# Altium footprint library diy-modules.PCBLIB: 111 footprints (part 2 of 7)
Each footprint in its own frame and in the unit in brackets; x right, y up, seen from the top. Pads: shape width x height; smd on the part's side, far side on the other; paste and mask are expansions set on the pad; w line width, h text height; cw(c..) or ccw(c..) is an arc to the next point about the centre after c.
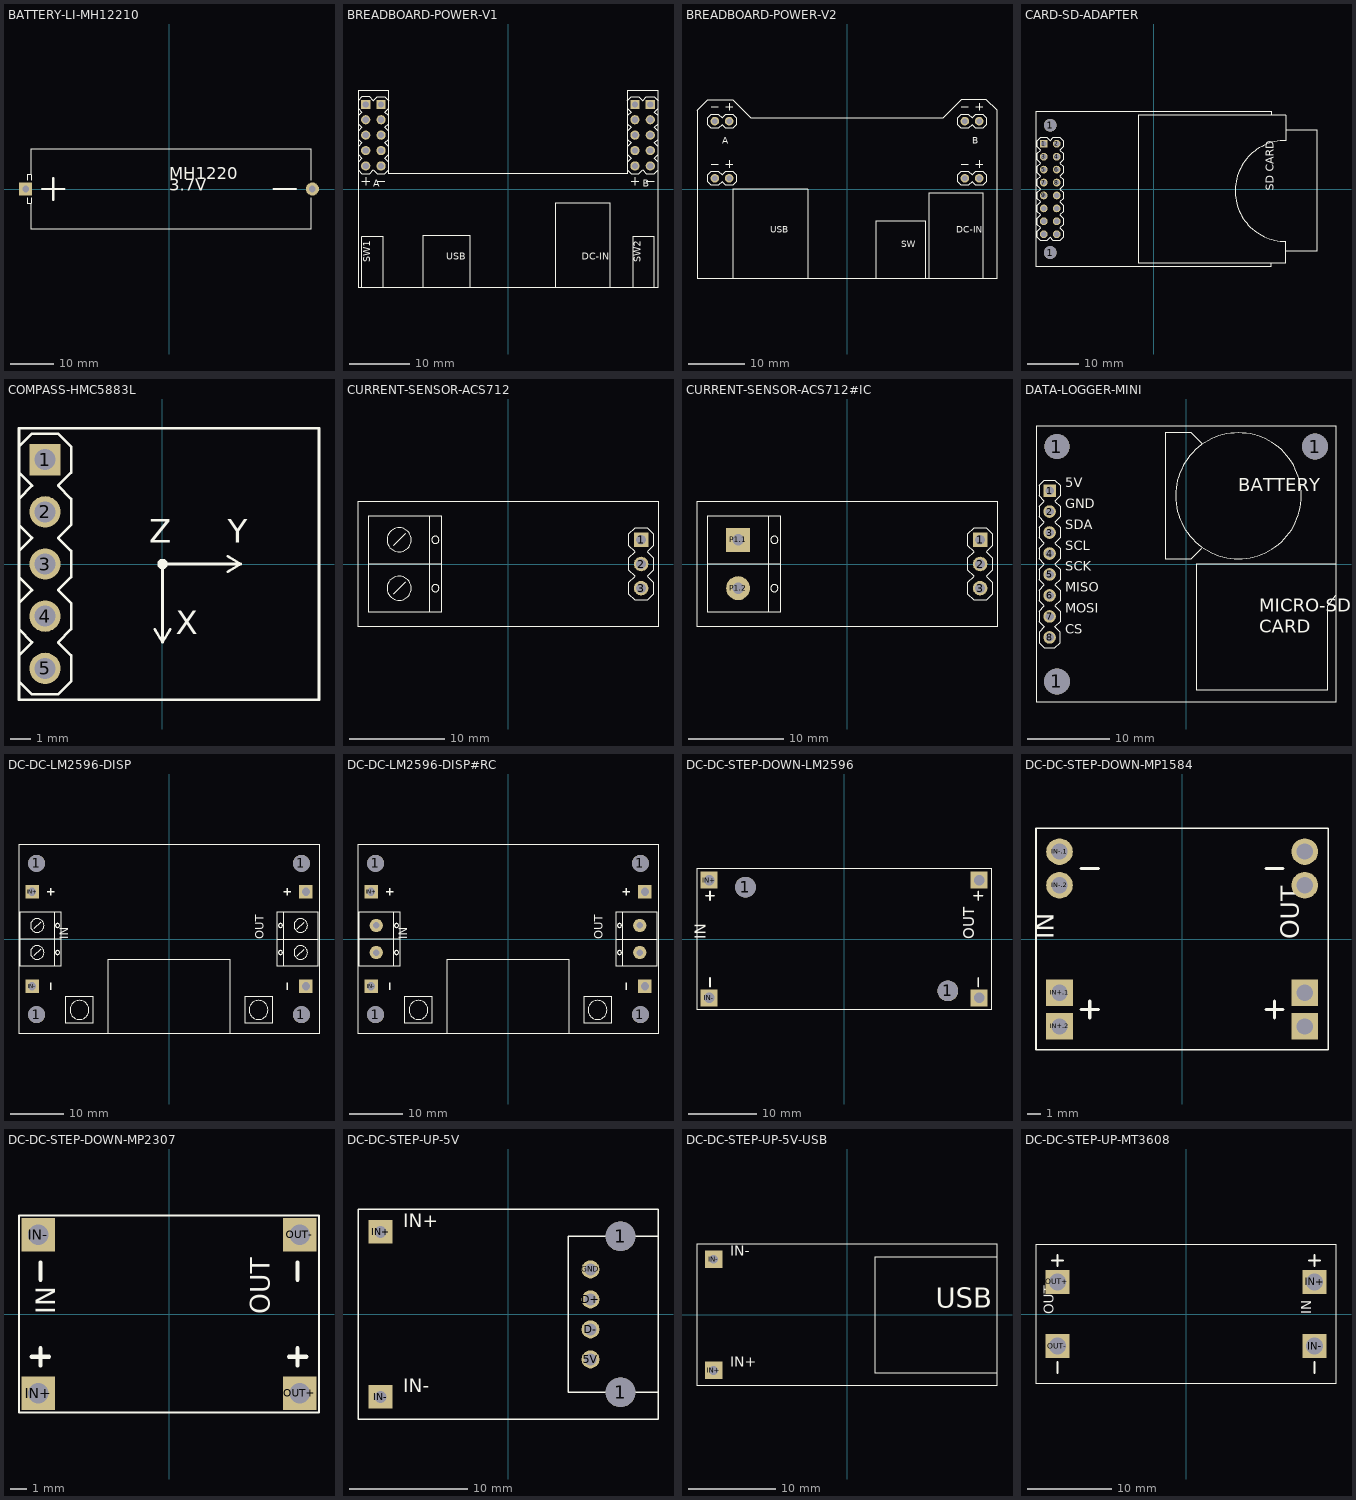
[diagram p1: the footprints below, top view; thin cyan lines are the x and y axes]

## BATTERY-LI-MH12210 [mil]
pads (2):
  rect 119x119 hole 60: BAT+(-1300,0)
  round 119 hole 60: BAT-(1300,0)
Top Overlay:
  lines w5: -1285,-80 -1285,-130 -1250,-130 ; -1285,80 -1285,130 -1250,130 ; -1250,-80 -1250,-130 ; -1250,80 -1250,130 ; 1285,-80 1285,-365 -1250,-365 -1250,-130 ; 1285,80 1285,365 -1250,365 -1250,130
  lines w20: -1150,0 -950,0 ; -1050,-100 -1050,100 ; 950,0 1150,0
  text "MH1220" at 0,50 h186
  text "3.7V" at 0,-50 h186

## BREADBOARD-POWER-V1 [mil]
pads (20):
  rect 60x60 hole 40: A.M.1(-825,550) A.P.1(-925,550) B.M.1(925,550) B.P.1(825,550)
  round 60 hole 40: A.M.2(-825,450) A.M.3(-825,350) A.M.4(-825,250) A.M.5(-825,150) A.P.2(-925,450) A.P.3(-925,350) A.P.4(-925,250) A.P.5(-925,150) B.M.2(925,450) B.M.3(925,350) B.M.4(925,250) B.M.5(925,150) B.P.2(825,450) B.P.3(825,350) B.P.4(825,250) B.P.5(825,150)
Top Overlay:
  lines w5: -975,575 -950,600 -900,600 -875,575 -850,600 -800,600 -775,575 ; -950,50 -900,50 ; -925,25 -925,75 ; -850,50 -800,50 ; 800,50 850,50 ; 825,25 825,75 ; 900,50 950,50 ; -975,125 -975,175 ; -975,125 -975,-640 -950,-640 ; -975,125 -950,100 -900,100 -875,125 -850,100 -800,100 -775,125 ; -975,175 -975,225 ; -975,175 -950,200 -975,225 ; -975,225 -975,275 ; -975,275 -975,325 ; -975,275 -950,300 -975,325 ; -975,325 -975,375 ; -975,375 -975,425 ; -975,375 -950,400 -975,425 ; -975,425 -975,475 ; -975,475 -975,525 ; -975,475 -950,500 -975,525 ; -975,525 -975,640 -775,640 -775,525 ; -950,-640 -810,-640 ; -950,-640 -950,-310 -810,-310 -810,-640 ; -810,-640 -550,-640 ; -775,125 -775,100 775,100 775,125 ; -775,125 -775,175 ; -775,175 -775,225 ; -775,175 -800,200 -775,225 ; -775,225 -775,275 ; -775,275 -775,325 ; -775,275 -800,300 -775,325 ; -775,325 -775,375 ; -775,375 -775,425 ; -775,375 -800,400 -775,425 ; -775,425 -775,475 ; -775,475 -775,525 ; -775,475 -800,500 -775,525 ; -550,-640 -250,-640 ; -550,-640 -550,-300 -250,-300 -250,-640 ; -250,-640 310,-640 ; 310,-640 660,-640 ; 310,-640 310,-90 660,-90 660,-640 ; 660,-640 810,-640 ; 775,125 775,175 ; 775,125 800,100 850,100 875,125 900,100 950,100 975,125 ; 775,175 775,225 ; 775,175 800,200 775,225 ; 775,225 775,275 ; 775,275 775,325 ; 775,275 800,300 775,325 ; 775,325 775,375 ; 775,375 775,425 ; 775,375 800,400 775,425 ; 775,425 775,475 ; 775,475 775,525 ; 775,475 800,500 775,525 ; 775,525 775,575 ; 775,575 775,640 975,640 975,575 ; 775,575 800,600 850,600 875,575 900,600 950,600 975,575 ; 810,-640 950,-640 ; 810,-640 810,-310 950,-310 950,-640 ; 950,-640 975,-640 975,125 ; 975,125 975,175 ; 975,175 975,225 ; 975,175 950,200 975,225 ; 975,225 975,275 ; 975,275 975,325 ; 975,275 950,300 975,325 ; 975,325 975,375 ; 975,375 975,425 ; 975,375 950,400 975,425 ; 975,425 975,475 ; 975,475 975,525 ; 975,475 950,500 975,525 ; 975,525 975,575
  text "SW1" at -880,-475 h77.5
  text "USB" at -400,-475 h77.5
  text "DC-IN" at 480,-475 h77.5
  text "SW2" at 880,-475 h77.5
  text "A" at -875,0 h77.5
  text "B" at 875,0 h77.5

## BREADBOARD-POWER-V2 [mil]
pads (8):
  round 60 hole 40: A.M.1(-925,475) A.M.2(-925,75) A.P.1(-825,475) A.P.2(-825,75) B.M.1(825,475) B.M.2(825,75) B.P.1(925,475) B.P.2(925,75)
Top Overlay:
  lines w5: -950,175 -900,175 ; -950,575 -900,575 ; -850,175 -800,175 ; -850,575 -800,575 ; -825,150 -825,200 ; -825,550 -825,600 ; 800,175 850,175 ; 800,575 850,575 ; 900,175 950,175 ; 900,575 950,575 ; 925,150 925,200 ; 925,550 925,600 ; -800,-625 -1050,-625 -1050,550 -975,625 -800,625 -675,500 675,500 800,625 975,625 1050,550 1050,-625 950,-625 ; -800,-625 -275,-625 ; -800,-625 -800,0 -275,0 -275,-625 ; -275,-625 200,-625 ; 200,-625 550,-625 ; 200,-625 200,-225 550,-225 550,-625 ; 550,-625 575,-625 ; 575,-625 950,-625 ; 575,-625 575,-25 950,-25 950,-625 ; -975,50 -950,25 -900,25 -875,50 -850,25 -800,25 -775,50 -775,100 -800,125 -850,125 -875,100 -900,125 -950,125 -975,100 -975,50 ; -975,450 -950,425 -900,425 -875,450 -850,425 -800,425 -775,450 -775,500 -800,525 -850,525 -875,500 -900,525 -950,525 -975,500 -975,450 ; 775,50 800,25 850,25 875,50 900,25 950,25 975,50 975,100 950,125 900,125 875,100 850,125 800,125 775,100 775,50 ; 775,450 800,425 850,425 875,450 900,425 950,425 975,450 975,500 950,525 900,525 875,500 850,525 800,525 775,500 775,450
  text "USB" at -537.5,-325 h77.5
  text "DC-IN" at 763,-325 h77.5
  text "A" at -875,300 h77.5
  text "B" at 875,300 h77.5
  text "SW" at 380,-425 h77.5

## CARD-SD-ADAPTER [mil]
pads (18):
  rect 60x60 hole 40: 1(-850,350)
  round 99 hole 99: 1(-800,-492.13) 1(-800,493)
  round 60 hole 40: 2(-750,350) 3(-850,250) 4(-750,250) 5(-850,150) 6(-750,150) 7(-850,50) 8(-750,50) 9(-850,-50) 10(-750,-50) 11(-850,-150) 12(-750,-150) 13(-850,-250) 14(-750,-250) 15(-850,-350) 16(-750,-350)
Top Overlay:
  lines w5: 910,-570 -120,-570 -120,570 910,570 ; 910,-570 1020,-570 1020,-480 ; 910,-570 910,-600 -910,-600 -910,600 910,600 910,570 ; 910,570 1020,570 1020,460 ; 1020,-480 1020,-405 cw(c1020,-15) 1020,375 1020,460 ; 1020,-480 1260,-480 1260,460 1020,460 ; -900,-375 -875,-400 -825,-400 -800,-375 -775,-400 -725,-400 -700,-375 -700,-325 -725,-300 -700,-275 -700,-225 -725,-200 -700,-175 -700,-125 -725,-100 -700,-75 -700,-25 -725,0 -700,25 -700,75 -725,100 -700,125 -700,175 -725,200 -700,225 -700,275 -725,300 -700,325 -700,375 -725,400 -775,400 -800,375 -825,400 -875,400 -900,375 -900,325 -875,300 -900,275 -900,225 -875,200 -900,175 -900,125 -875,100 -900,75 -900,25 -875,0 -900,-25 -900,-75 -875,-100 -900,-125 -900,-175 -875,-200 -900,-225 -900,-275 -875,-300 -900,-325 -900,-375
  text "SD CARD" at 950,-15 h108.5

## COMPASS-HMC5883L [mil]
pads (5):
  rect 60x60 hole 40: 1(-225,200)
  round 60 hole 40: 2(-225,100) 3(-225,0) 4(-225,-100) 5(-225,-200)
Top Overlay:
  circle w10: c0,0 r5
  lines w5: -275,-225 -250,-250 -200,-250 -175,-225 -175,-175 -200,-150 -175,-125 -175,-75 -200,-50 -175,-25 -175,25 -200,50 -175,75 -175,125 -200,150 -175,175 -175,225 -200,250 -250,250 -275,225 ; -15,-125 0,-150 ; 15,-125 0,-150 ; 125,-15 150,0 ; 125,15 150,0 ; -275,-175 -275,-260 300,-260 300,260 -275,260 -275,175 ; -275,-175 -275,-125 ; -275,-175 -250,-150 -275,-125 ; -275,-125 -275,-75 ; -275,-75 -275,-25 ; -275,-75 -250,-50 -275,-25 ; -275,-25 -275,25 ; -275,25 -275,75 ; -275,25 -250,50 -275,75 ; -275,75 -275,125 ; -275,125 -275,175 ; -275,125 -250,150 -275,175 ; 0,-150 0,0 150,0
  text "X" at 25,-150 h77.5
  text "Y" at 125,25 h77.5
  text "Z" at -25,25 h77.5

## CURRENT-SENSOR-ACS712 [mil]
pads (3):
  rect 60x60 hole 40: 1(550,100)
  round 60 hole 40: 2(550,0) 3(550,-100)
Top Overlay:
  circle w5: c-450,100 r50
  circle w5: c-450,-100 r50
  circle w5: c-300,100 r15
  circle w5: c-300,-100 r15
  lines w5: -475,-125 -425,-75 ; -475,75 -425,125 ; -575,0 -575,-200 -325,-200 ; -575,0 -575,200 -325,200 ; -575,0 -275,0 ; -325,-200 -275,-200 -275,0 ; -325,-200 -325,200 ; -325,200 -275,200 -275,0 ; -620,-260 620,-260 620,260 -620,260 -620,-260 ; 500,-125 525,-150 575,-150 600,-125 600,-75 575,-50 600,-25 600,25 575,50 600,75 600,125 575,150 525,150 500,125 500,75 525,50 500,25 500,-25 525,-50 500,-75 500,-125

## CURRENT-SENSOR-ACS712#IC [mil]
pads (5):
  rect 60x60 hole 40: 1(550,100)
  round 60 hole 40: 2(550,0) 3(550,-100)
  rect 99x99 hole 48: P1.1(-450,100)
  round 99 hole 48: P1.2(-450,-100)
Top Overlay:
  circle w5: c-300,100 r15
  circle w5: c-300,-100 r15
  lines w5: -575,0 -575,-200 -325,-200 ; -575,0 -575,200 -325,200 ; -575,0 -275,0 ; -325,-200 -275,-200 -275,0 ; -325,-200 -325,200 ; -325,200 -275,200 -275,0 ; -620,-260 620,-260 620,260 -620,260 -620,-260 ; 500,-125 525,-150 575,-150 600,-125 600,-75 575,-50 600,-25 600,25 575,50 600,75 600,125 575,150 525,150 500,125 500,75 525,50 500,25 500,-25 525,-50 500,-75 500,-125

## DATA-LOGGER-MINI [mil]
pads (11):
  rect 60x60 hole 40: 1(-650,350)
  round 123 hole 123: 1(-615,-560) 1(615,560)
  round 119 hole 119: 1(-615,560)
  round 60 hole 40: 2(-650,250) 3(-650,150) 4(-650,50) 5(-650,-50) 6(-650,-150) 7(-650,-250) 8(-650,-350)
Top Overlay:
  circle w5: c250,325 r300
  lines w5: 75,75 25,25 -100,25 -100,625 25,625 75,575 ; 715,-150 715,0 ; 715,-150 715,-660 -715,-660 -715,660 715,660 715,0 ; 715,-150 675,-200 675,-600 50,-600 50,0 715,0 ; -700,-375 -675,-400 -625,-400 -600,-375 -600,-325 -625,-300 -600,-275 -600,-225 -625,-200 -600,-175 -600,-125 -625,-100 -600,-75 -600,-25 -625,0 -600,25 -600,75 -625,100 -600,125 -600,175 -625,200 -600,225 -600,275 -625,300 -600,325 -600,375 -625,400 -675,400 -700,375 -700,325 -675,300 -700,275 -700,225 -675,200 -700,175 -700,125 -675,100 -700,75 -700,25 -675,0 -700,-25 -700,-75 -675,-100 -700,-125 -700,-175 -675,-200 -700,-225 -700,-275 -675,-300 -700,-325 -700,-375
  text "5V" at -575,350 h77.5
  text "GND" at -575,250 h77.5
  text "SDA" at -575,150 h77.5
  text "SCL" at -575,50 h77.5
  text "SCK" at -575,-50 h77.5
  text "MISO" at -575,-150 h77.5
  text "MOSI" at -575,-250 h77.5
  text "CS" at -575,-350 h77.5
  text "BATTERY" at 250,325 h108.5
  text "MICRO-SD" at 350,-250 h108.5
  text "CARD" at 350,-350 h108.5

## DC-DC-LM2596-DISP [mil]
pads (8):
  round 126 hole 126: 1(-980,-560) 1(-980,560) 1(980,-560) 1(980,560)
  rect 99x99 hole 60: IN+(-1012.5,350) IN-(-1012.5,-350) OUT+(1013,350) OUT-(1013,-350)
Top Overlay:
  circle w5: c-975,100 r50
  circle w5: c-975,-100 r50
  circle w5: c-825,100 r15
  circle w5: c-825,-100 r15
  circle w5: c975,-100 r50
  circle w5: c975,100 r50
  circle w5: c825,-100 r15
  circle w5: c825,100 r15
  circle w5: c663,-525 r70
  circle w5: c-662.5,-525 r70
  lines w5: -1000,-125 -950,-75 ; -1000,75 -950,125 ; 950,-125 1000,-75 ; 950,75 1000,125 ; -1100,0 -1100,-200 -850,-200 ; -1100,0 -1100,200 -850,200 ; -1100,0 -800,0 ; -850,-200 -800,-200 -800,0 ; -850,-200 -850,200 ; -850,200 -800,200 -800,0 ; -450,-700 450,-700 ; -450,-700 -1110,-700 -1110,700 1110,700 1110,-700 450,-700 ; -450,-700 -450,-150 450,-150 450,-700 ; 800,0 800,-200 850,-200 ; 800,0 800,200 850,200 ; 800,0 1100,0 ; 850,-200 1100,-200 1100,0 ; 850,-200 850,200 ; 850,200 1100,200 1100,0 ; -762.5,-625 -562.5,-625 -562.5,-425 -762.5,-425 -762.5,-625 ; 563,-625 763,-625 763,-425 563,-425 563,-625
  lines w10: -900,350 -850,350 ; -875,-375 -875,-325 ; -875,325 -875,375 ; 850,350 900,350 ; 875,-375 875,-325 ; 875,325 875,375
  text "IN" at -725,0 h108.5
  text "OUT" at 725,0 h108.5

## DC-DC-LM2596-DISP#RC [mil]
pads (12):
  round 126 hole 126: 1(-980,-560) 1(-980,560) 1(980,-560) 1(980,560)
  rect 99x99 hole 60: IN+(-1012.5,350) IN-(-1012.5,-350) OUT+(1013,350) OUT-(1013,-350)
  round 99 hole 48: P1.1(-975,100) P1.2(-975,-100) P2.1(975,-100) P2.2(975,100)
Top Overlay:
  circle w5: c-825,100 r15
  circle w5: c-825,-100 r15
  circle w5: c825,-100 r15
  circle w5: c825,100 r15
  circle w5: c663,-525 r70
  circle w5: c-662.5,-525 r70
  lines w5: -1100,0 -1100,-200 -850,-200 ; -1100,0 -1100,200 -850,200 ; -1100,0 -800,0 ; -850,-200 -800,-200 -800,0 ; -850,-200 -850,200 ; -850,200 -800,200 -800,0 ; -450,-700 450,-700 ; -450,-700 -1110,-700 -1110,700 1110,700 1110,-700 450,-700 ; -450,-700 -450,-150 450,-150 450,-700 ; 800,0 800,-200 850,-200 ; 800,0 800,200 850,200 ; 800,0 1100,0 ; 850,-200 1100,-200 1100,0 ; 850,-200 850,200 ; 850,200 1100,200 1100,0 ; -762.5,-625 -562.5,-625 -562.5,-425 -762.5,-425 -762.5,-625 ; 563,-625 763,-625 763,-425 563,-425 563,-625
  lines w10: -900,350 -850,350 ; -875,-375 -875,-325 ; -875,325 -875,375 ; 850,350 900,350 ; 875,-375 875,-325 ; 875,325 875,375
  text "IN" at -725,0 h108.5
  text "OUT" at 725,0 h108.5

## DC-DC-STEP-DOWN-LM2596 [mil]
pads (6):
  round 119 hole 119: 1(-570,300) 1(600,-300)
  rect 99x99 hole 60: IN+(-780,340) IN-(-780,-340) OUT+(780,340) OUT-(780,-340)
Top Overlay:
  lines w5: -850,-410 850,-410 850,410 -850,410 -850,-410
  lines w10: -800,250 -750,250 ; -775,-275 -775,-225 ; -775,225 -775,275 ; 750,250 800,250 ; 775,-275 775,-225 ; 775,225 775,275
  text "IN" at -775,0 h108.5
  text "OUT" at 775,0 h108.5

## DC-DC-STEP-DOWN-MP1584 [mil]
pads (8):
  rect 79x79 hole 48: IN+.1(-365,-160) IN+.2(-365,-260) OUT+.1(365,-160) OUT+.2(365,-260)
  round 79 hole 48: IN-.1(-365,260) IN-.2(-365,160) OUT-.1(365,260) OUT-.2(365,160)
Top Overlay:
  lines w5: -435,-330 435,-330 435,330 -435,330 -435,-330
  lines w10: -300,-210 -250,-210 ; -300,210 -250,210 ; -275,-235 -275,-185 ; 250,-210 300,-210 ; 250,210 300,210 ; 275,-235 275,-185
  text "IN" at -365,0 h93
  text "OUT" at 365,0 h93

## DC-DC-STEP-DOWN-MP2307 [mil]
pads (4):
  rect 79x79 hole 48: IN+(-305,-185) IN-(-305,185) OUT+(305,-185) OUT-(305,185)
Top Overlay:
  lines w5: -350,-230 350,-230 350,230 -350,230 -350,-230
  lines w10: -320,-100 -280,-100 ; -300,-120 -300,-80 ; -300,80 -300,120 ; 280,-100 320,-100 ; 300,-120 300,-80 ; 300,80 300,120
  text "IN" at -250,0 h77.5
  text "OUT" at 250,0 h77.5

## DC-DC-STEP-UP-5V [mil]
pads (8):
  round 99 hole 99: 1(375,-260) 1(375,260)
  round 60 hole 40: 5V(275,-150) D+(275,50) D-(275,-50) GND(275,150)
  rect 79x79 hole 40: IN+(-425,275) IN-(-425,-275)
Top Overlay:
  lines w5: 500,-260 500,260 ; 500,-260 500,-350 -500,-350 -500,350 500,350 500,260 ; 500,-260 200,-260 200,260 500,260
  text "IN+" at -350,275 h77.5
  text "IN-" at -350,-275 h77.5

## DC-DC-STEP-UP-5V-USB [mil]
pads (2):
  rect 79x79 hole 40: IN+(-600,-250) IN-(-600,250)
Top Overlay:
  lines w5: 675,-260 675,260 ; 675,-260 675,-320 -675,-320 -675,320 675,320 675,260 ; 675,-260 125,-260 125,260 675,260
  text "IN-" at -525,250 h77.5
  text "IN+" at -525,-250 h77.5
  text "USB" at 400,0 h155

## DC-DC-STEP-UP-MT3608 [mil]
pads (4):
  rect 111x111 hole 79: IN+(600,150) IN-(600,-150) OUT+(-600,150) OUT-(-600,-150)
Top Overlay:
  lines w5: -700,-325 700,-325 700,325 -700,325 -700,-325
  lines w10: -625,250 -575,250 ; -600,-275 -600,-225 ; -600,225 -600,275 ; 575,250 625,250 ; 600,-275 600,-225 ; 600,225 600,275
  text "IN" at 600,0 h77.5
  text "OUT" at -600,0 h77.5